# Altium integrated library AMP CHAMP Miniature Ribbon 050 Series II.IntLib: 164 symbols (part 1 of 4)
Pins are listed as number, name and electrical type; pins without a type are passive.

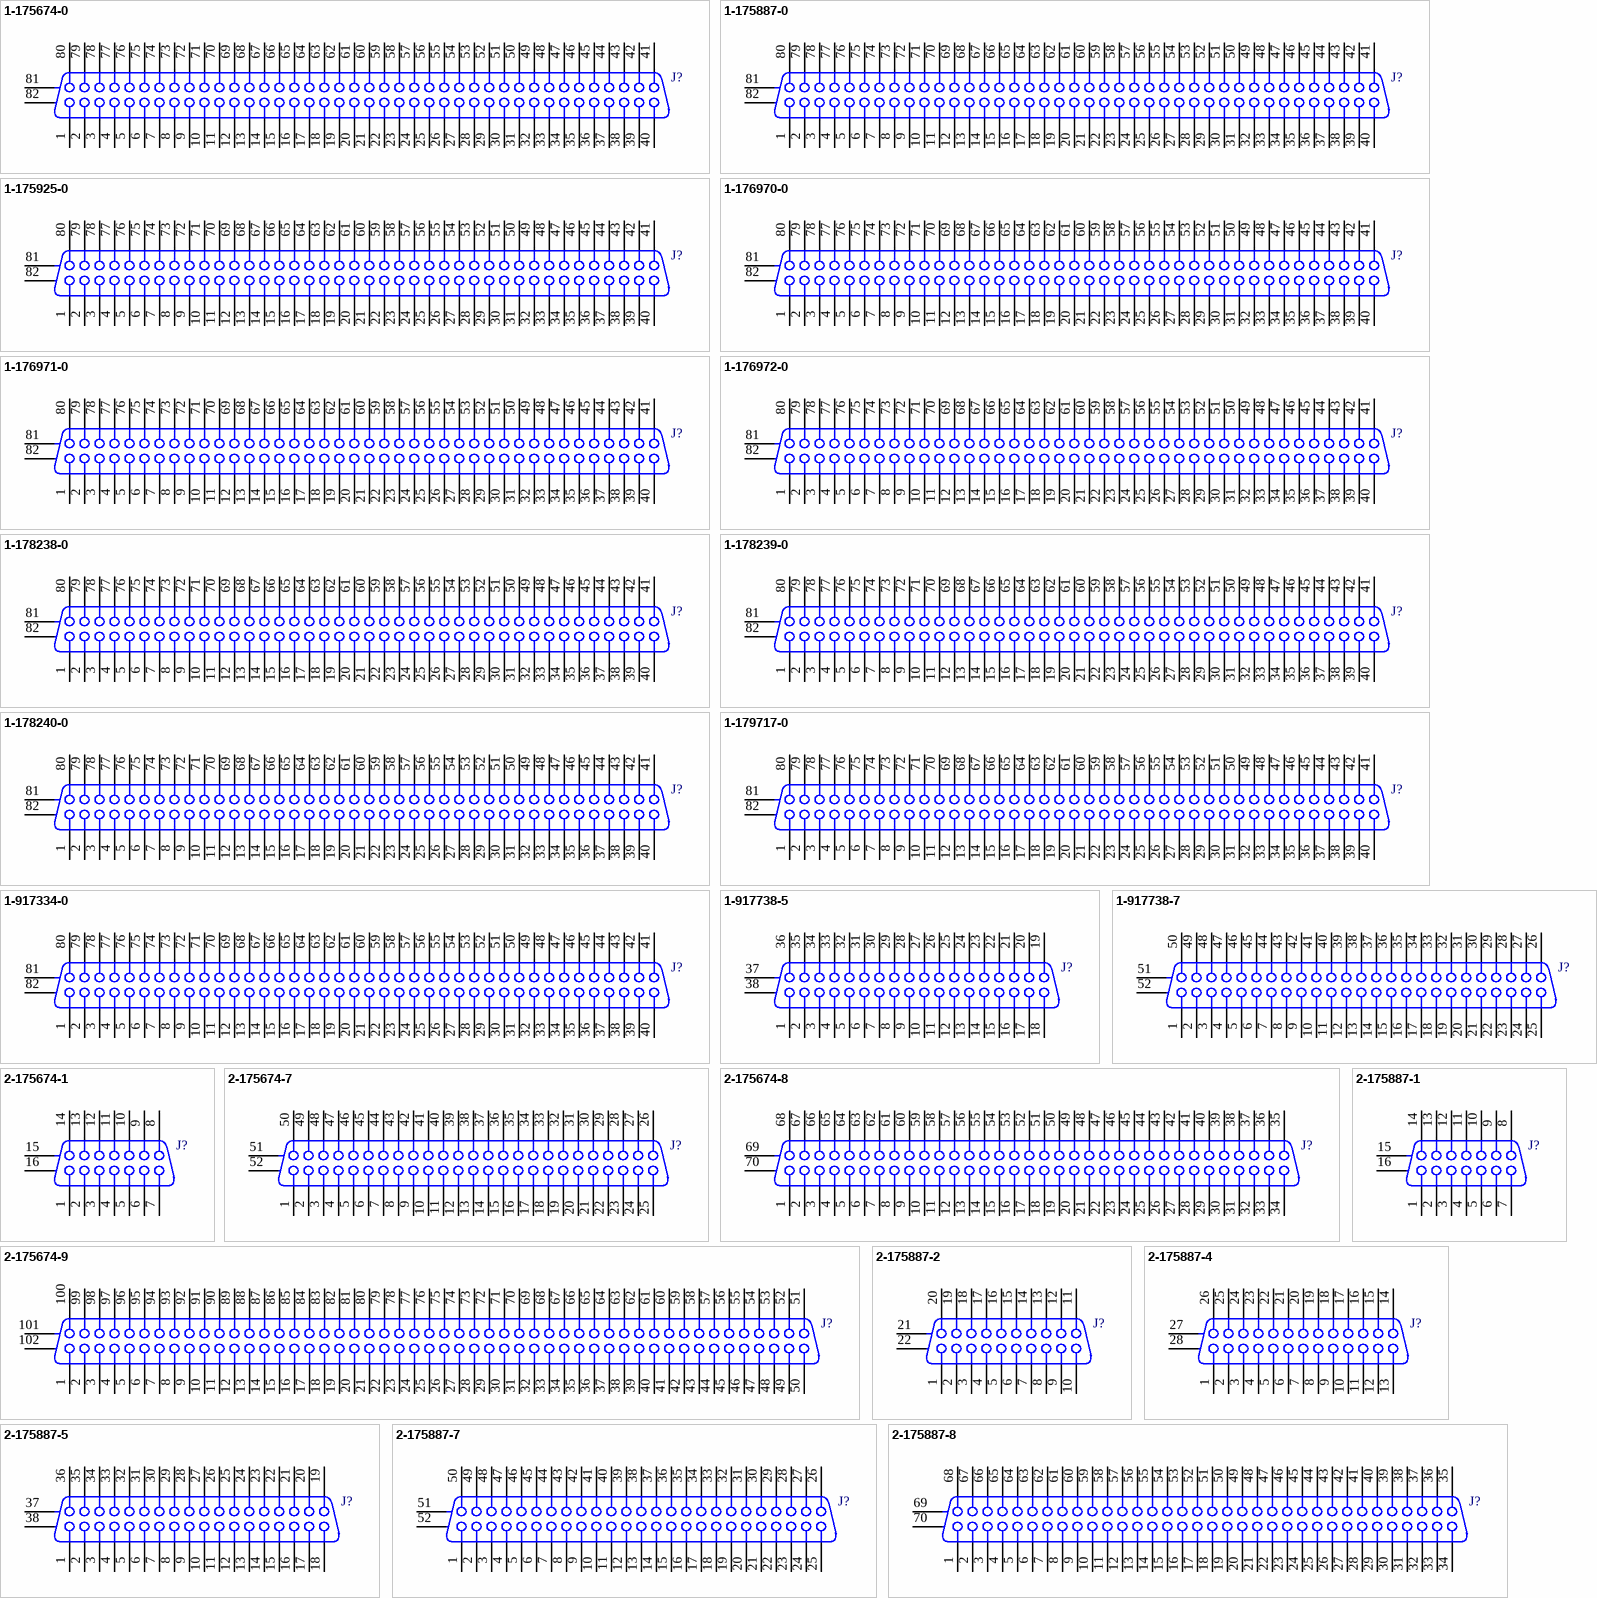
[diagram p0: symbols 1-175674-0 to 2-175887-8]

## 1-175674-0
designator J?
Receptacle Header Assemby (3.9mm) without Retention Leg CHAMP .050 Series II; ContactMaterial: Phosphor Bronze; ContactPlating: Gold (12); Positions: 80; PCB_Layout: Complies with manufacturer's recommendation.; DrillSize: Corresponds to nominal value.; ComponentAvailability: Obsolete; Published: 15-Jun-2001; LatestRevisionDate: 29-May-2009; LatestRevisionNote: Component Body Added.; DatasheetVersion: 30-Nov-1999; PackageVersion: 30-Nov-1999; PackageReference: 1-175674-0; Publisher: Altium Limited; Orientation: Right Angle; HousingMaterial: Thermoplastic Polyester, UL 94V-0; ComponentLink1Description: Manufacturer Link; ComponentLink1URL: http://www.tycoelectronics.com/
footprint 1-175674-0 (Connector; CHAMP Miniature Ribbon 050 Series II; 80 Position; Right Angle)
signal-integrity model CHAMP
pins: 1, 2, 3, 4, 5, 6, 7, 8, 9, 10, 11, 12, 13, 14, 15, 16, 17, 18, 19, 20, 21, 22, 23, 24, 25, 26, 27, 28, 29, 30, 31, 32, 33, 34, 35, 36, 37, 38, 39, 40, 41, 42, 43, 44, 45, 46, 47, 48, 49, 50, 51, 52, 53, 54, 55, 56, 57, 58, 59, 60, 61, 62, 63, 64, 65, 66, 67, 68, 69, 70, 71, 72, 73, 74, 75, 76, 77, 78, 79, 80, 81 MH1, 82 MH2

## 1-175887-0
designator J?
Receptacle Header Assemby, Vertical CHAMP .050 Series II Std-Type (M2.6); ContactMaterial: Phosphor Bronze; ContactPlating: Gold (12); Positions: 80; PCB_Layout: Complies with manufacturer's recommendation.; DrillSize: Corresponds to nominal value.; ComponentAvailability: Obsolete; Published: 15-Jun-2001; LatestRevisionDate: 29-May-2009; LatestRevisionNote: Component Body Added.; DatasheetVersion: 26-Jan-1996; PackageVersion: 26-Jan-1996; PackageReference: 1-175887-0; Publisher: Altium Limited; Orientation: Vertical; HousingMaterial: Thermoplastic, Zinc Die Cast; ComponentLink1Description: Manufacturer Link; ComponentLink1URL: http://www.tycoelectronics.com/; ComponentLink2Description: Packaging Specification; ComponentLink2URL: http://ecommas.tycoelectronics.com/commerce/DocumentDelivery/DDEController?Action=ecatdrawselcritrslt&Part=1-175887-0; ComponentLink3Description: Iges Model; ComponentLink3URL: http://catalog.tycoelectronics.com/TE/docs/cadgeo/1/26/34621.tar.gz
footprint 1-175887-0 (Connector; CHAMP Miniature Ribbon 050 Series II; 80 Position; Vertical)
signal-integrity model CHAMP
pins: 1, 2, 3, 4, 5, 6, 7, 8, 9, 10, 11, 12, 13, 14, 15, 16, 17, 18, 19, 20, 21, 22, 23, 24, 25, 26, 27, 28, 29, 30, 31, 32, 33, 34, 35, 36, 37, 38, 39, 40, 41, 42, 43, 44, 45, 46, 47, 48, 49, 50, 51, 52, 53, 54, 55, 56, 57, 58, 59, 60, 61, 62, 63, 64, 65, 66, 67, 68, 69, 70, 71, 72, 73, 74, 75, 76, 77, 78, 79, 80, 81 MH1, 82 MH2

## 1-175925-0
designator J?
Receptacle Header Assemby, Vertical CHAMP .050 Series II; ContactMaterial: Phosphor Bronze; ContactPlating: Gold (12); Positions: 80; PCB_Layout: Complies with manufacturer's recommendation.; DrillSize: Corresponds to nominal value.; ComponentAvailability: Obsolete; Published: 15-Jun-2001; LatestRevisionDate: 29-May-2009; LatestRevisionNote: Component Body Added.; DatasheetVersion: 20-Dec-1990; PackageVersion: 20-Dec-1990; PackageReference: 1-175925-0; Publisher: Altium Limited; Orientation: Vertical; HousingMaterial: Thermoplastic Polyester, UL 94V-0; ComponentLink1Description: Manufacturer Link; ComponentLink1URL: http://www.tycoelectronics.com/
footprint 1-175925-0 (Connector; CHAMP Miniature Ribbon 050 Series II; 80 Position; Vertical)
signal-integrity model CHAMP
pins: 1, 2, 3, 4, 5, 6, 7, 8, 9, 10, 11, 12, 13, 14, 15, 16, 17, 18, 19, 20, 21, 22, 23, 24, 25, 26, 27, 28, 29, 30, 31, 32, 33, 34, 35, 36, 37, 38, 39, 40, 41, 42, 43, 44, 45, 46, 47, 48, 49, 50, 51, 52, 53, 54, 55, 56, 57, 58, 59, 60, 61, 62, 63, 64, 65, 66, 67, 68, 69, 70, 71, 72, 73, 74, 75, 76, 77, 78, 79, 80, 81 MH1, 82 MH2

## 1-176970-0
designator J?
Receptacle Header Assemby (3.1mm) CHAMP .050 Series II Std-Type; ContactMaterial: Copper Alloy; ContactPlating: Gold (12); Positions: 80; PCB_Layout: Complies with manufacturer's recommendation.; DrillSize: Corresponds to nominal value.; ComponentAvailability: Obsolete; Published: 15-Jun-2001; LatestRevisionDate: 29-May-2009; LatestRevisionNote: Component Body Added.; DatasheetVersion: 20-Sep-1994; PackageVersion: 20-Sep-1994; PackageReference: 1-176970-0; Publisher: Altium Limited; Orientation: Right Angle; HousingMaterial: Zinc Die Cast, UL 94V-0; ComponentLink1Description: Manufacturer Link; ComponentLink1URL: http://www.tycoelectronics.com/
footprint 1-176970-0 (Connector; CHAMP Miniature Ribbon 050 Series II; 80 Position; Right Angle)
signal-integrity model CHAMP
pins: 1, 2, 3, 4, 5, 6, 7, 8, 9, 10, 11, 12, 13, 14, 15, 16, 17, 18, 19, 20, 21, 22, 23, 24, 25, 26, 27, 28, 29, 30, 31, 32, 33, 34, 35, 36, 37, 38, 39, 40, 41, 42, 43, 44, 45, 46, 47, 48, 49, 50, 51, 52, 53, 54, 55, 56, 57, 58, 59, 60, 61, 62, 63, 64, 65, 66, 67, 68, 69, 70, 71, 72, 73, 74, 75, 76, 77, 78, 79, 80, 81 MH1, 82 MH2

## 1-176971-0
designator J?
Receptacle Header Assemby (3.9mm) CHAMP .050 Series II Std-Type; ContactMaterial: Copper Alloy; ContactPlating: Gold (12); Positions: 80; PCB_Layout: Complies with manufacturer's recommendation.; DrillSize: Corresponds to nominal value.; ComponentAvailability: Obsolete; Published: 15-Jun-2001; LatestRevisionDate: 29-May-2009; LatestRevisionNote: Component Body Added.; DatasheetVersion: 21-Sep-1994; PackageVersion: 21-Sep-1994; PackageReference: 1-176971-0; Publisher: Altium Limited; Orientation: Right Angle; HousingMaterial: Zinc Die Cast, UL 94V-0; ComponentLink1Description: Manufacturer Link; ComponentLink1URL: http://www.tycoelectronics.com/
footprint 1-176971-0 (Connector; CHAMP Miniature Ribbon 050 Series II; 80 Position; Right Angle)
signal-integrity model CHAMP
pins: 1, 2, 3, 4, 5, 6, 7, 8, 9, 10, 11, 12, 13, 14, 15, 16, 17, 18, 19, 20, 21, 22, 23, 24, 25, 26, 27, 28, 29, 30, 31, 32, 33, 34, 35, 36, 37, 38, 39, 40, 41, 42, 43, 44, 45, 46, 47, 48, 49, 50, 51, 52, 53, 54, 55, 56, 57, 58, 59, 60, 61, 62, 63, 64, 65, 66, 67, 68, 69, 70, 71, 72, 73, 74, 75, 76, 77, 78, 79, 80, 81 MH1, 82 MH2

## 1-176972-0
designator J?
Receptacle Header Assemby (2.2mm) CHAMP .050 Series II Std-Type; ContactMaterial: Copper Alloy; ContactPlating: Gold (12); Positions: 80; PCB_Layout: Complies with manufacturer's recommendation.; DrillSize: Corresponds to nominal value.; ComponentAvailability: Obsolete; Published: 15-Jun-2001; LatestRevisionDate: 29-May-2009; LatestRevisionNote: Component Body Added.; DatasheetVersion: 24-Sep-1994; PackageVersion: 24-Sep-1994; PackageReference: 1-176972-0; Publisher: Altium Limited; Orientation: Right Angle; HousingMaterial: Zinc Die Cast, UL 94V-0; ComponentLink1Description: Manufacturer Link; ComponentLink1URL: http://www.tycoelectronics.com/
footprint 1-176972-0 (Connector; CHAMP Miniature Ribbon 050 Series II; 80 Position; Right Angle)
signal-integrity model CHAMP
pins: 1, 2, 3, 4, 5, 6, 7, 8, 9, 10, 11, 12, 13, 14, 15, 16, 17, 18, 19, 20, 21, 22, 23, 24, 25, 26, 27, 28, 29, 30, 31, 32, 33, 34, 35, 36, 37, 38, 39, 40, 41, 42, 43, 44, 45, 46, 47, 48, 49, 50, 51, 52, 53, 54, 55, 56, 57, 58, 59, 60, 61, 62, 63, 64, 65, 66, 67, 68, 69, 70, 71, 72, 73, 74, 75, 76, 77, 78, 79, 80, 81 MH1, 82 MH2

## 1-178238-0
designator J?
Receptacle Header Assemby (3.1mm) Retention Leg CHAMP .050 Series II Std-Type; ContactMaterial: Copper Alloy; ContactPlating: Gold (12); Positions: 80; PCB_Layout: Complies with manufacturer's recommendation.; DrillSize: Corresponds to nominal value.; ComponentAvailability: Obsolete; Published: 15-Jun-2001; LatestRevisionDate: 29-May-2009; LatestRevisionNote: Component Body Added.; DatasheetVersion: Jun-1995; PackageVersion: Jun-1995; PackageReference: 1-178238-0; Publisher: Altium Limited; Orientation: Right Angle; HousingMaterial: Zinc Die Cast, UL 94V-0; ComponentLink1Description: Manufacturer Link; ComponentLink1URL: http://www.tycoelectronics.com/; ComponentLink2Description: Packaging Specification; ComponentLink2URL: http://ecommas.tycoelectronics.com/commerce/DocumentDelivery/DDEController?Action=showdoc&DocId=Customer+Drawing%7F178238%7FC%7Fpdf%7FEnglish%7FENG_CD_178238_C.pdf
footprint 1-178238-0 (Connector; CHAMP Miniature Ribbon 050 Series II; 80 Position; Right Angle)
signal-integrity model CHAMP
pins: 1, 2, 3, 4, 5, 6, 7, 8, 9, 10, 11, 12, 13, 14, 15, 16, 17, 18, 19, 20, 21, 22, 23, 24, 25, 26, 27, 28, 29, 30, 31, 32, 33, 34, 35, 36, 37, 38, 39, 40, 41, 42, 43, 44, 45, 46, 47, 48, 49, 50, 51, 52, 53, 54, 55, 56, 57, 58, 59, 60, 61, 62, 63, 64, 65, 66, 67, 68, 69, 70, 71, 72, 73, 74, 75, 76, 77, 78, 79, 80, 81 MH1, 82 MH2

## 1-178239-0
designator J?
Receptacle Header Assemby (3.9mm) Retention Leg CHAMP .050 Series II Std-Type; ContactMaterial: Copper Alloy; ContactPlating: Gold (12); Positions: 80; PCB_Layout: Complies with manufacturer's recommendation.; DrillSize: Corresponds to nominal value.; Published: 15-Jun-2001; LatestRevisionDate: 29-May-2009; LatestRevisionNote: Component Body Added.; DatasheetVersion: Jun-1995; PackageVersion: Jun-1995; PackageReference: 1-178239-0; Publisher: Altium Limited; Orientation: Right Angle; HousingMaterial: Zinc Die Cast, UL 94V-0; ComponentLink1Description: Manufacturer Link; ComponentLink1URL: http://www.tycoelectronics.com/; ComponentLink2Description: Packaging Specification; ComponentLink2URL: http://ecommas.tycoelectronics.com/commerce/DocumentDelivery/DDEController?Action=showdoc&DocId=Customer+Drawing%7F178239%7FB%7Fpdf%7FEnglish%7FENG_CD_178239_B.pdf
footprint 1-178239-0 (Connector; CHAMP Miniature Ribbon 050 Series II; 80 Position; Right Angle)
signal-integrity model CHAMP
pins: 1, 2, 3, 4, 5, 6, 7, 8, 9, 10, 11, 12, 13, 14, 15, 16, 17, 18, 19, 20, 21, 22, 23, 24, 25, 26, 27, 28, 29, 30, 31, 32, 33, 34, 35, 36, 37, 38, 39, 40, 41, 42, 43, 44, 45, 46, 47, 48, 49, 50, 51, 52, 53, 54, 55, 56, 57, 58, 59, 60, 61, 62, 63, 64, 65, 66, 67, 68, 69, 70, 71, 72, 73, 74, 75, 76, 77, 78, 79, 80, 81 MH1, 82 MH2

## 1-178240-0
designator J?
Receptacle Header Assemby (2.2mm) Retention Leg CHAMP .050 Series II Std-Type; ContactMaterial: Copper Alloy; ContactPlating: Gold (12); Positions: 80; PCB_Layout: Complies with manufacturer's recommendation.; DrillSize: Corresponds to nominal value.; ComponentAvailability: Obsolete; Published: 15-Jun-2001; LatestRevisionDate: 29-May-2009; LatestRevisionNote: Component Body Added.; DatasheetVersion: Jun-1995; PackageVersion: Jun-1995; PackageReference: 1-178240-0; Publisher: Altium Limited; Orientation: Right Angle; HousingMaterial: Zinc Die Cast, UL 94V-0; ComponentLink1Description: Manufacturer Link; ComponentLink1URL: http://www.tycoelectronics.com/; ComponentLink2Description: Packaging Specification; ComponentLink2URL: http://ecommas.tycoelectronics.com/commerce/DocumentDelivery/DDEController?Action=showdoc&DocId=Customer+Drawing%7F178240%7FD%7Fpdf%7FEnglish%7FENG_CD_178240_D.pdf
footprint 1-178240-0 (Connector; CHAMP Miniature Ribbon 050 Series II; 80 Position; Right Angle)
signal-integrity model CHAMP
pins: 1, 2, 3, 4, 5, 6, 7, 8, 9, 10, 11, 12, 13, 14, 15, 16, 17, 18, 19, 20, 21, 22, 23, 24, 25, 26, 27, 28, 29, 30, 31, 32, 33, 34, 35, 36, 37, 38, 39, 40, 41, 42, 43, 44, 45, 46, 47, 48, 49, 50, 51, 52, 53, 54, 55, 56, 57, 58, 59, 60, 61, 62, 63, 64, 65, 66, 67, 68, 69, 70, 71, 72, 73, 74, 75, 76, 77, 78, 79, 80, 81 MH1, 82 MH2

## 1-179717-0
designator J?
Receptacle Header Assemby, Retention Leg CHAMP .050 Series II Std-Type; ContactMaterial: Copper Alloy; ContactPlating: Gold (12); Positions: 80; PCB_Layout: Complies with manufacturer's recommendation.; DrillSize: Corresponds to nominal value.; Published: 15-Jun-2001; LatestRevisionDate: 29-May-2009; LatestRevisionNote: Component Body Added.; DatasheetVersion: 19-Feb-1996; PackageVersion: 19-Feb-1996; PackageReference: 1-179717-0; Publisher: Altium Limited; Orientation: Right Angle; HousingMaterial: Thermoplastic; ComponentLink1Description: Manufacturer Link; ComponentLink1URL: http://www.tycoelectronics.com/; ComponentLink2Description: Packaging Specification; ComponentLink2URL: http://ecommas.tycoelectronics.com/commerce/DocumentDelivery/DDEController?Action=showdoc&DocId=Customer+Drawing%7F179717%7FE%7Fpdf%7FJapanese%7FJPN_CD_179717_E.pdf
footprint 1-179717-0 (Connector; CHAMP Miniature Ribbon 050 Series II; 80 Position; Right Angle)
signal-integrity model CHAMP
pins: 1, 2, 3, 4, 5, 6, 7, 8, 9, 10, 11, 12, 13, 14, 15, 16, 17, 18, 19, 20, 21, 22, 23, 24, 25, 26, 27, 28, 29, 30, 31, 32, 33, 34, 35, 36, 37, 38, 39, 40, 41, 42, 43, 44, 45, 46, 47, 48, 49, 50, 51, 52, 53, 54, 55, 56, 57, 58, 59, 60, 61, 62, 63, 64, 65, 66, 67, 68, 69, 70, 71, 72, 73, 74, 75, 76, 77, 78, 79, 80, 81 MH1, 82 MH2

## 1-917334-0
designator J?
Receptacle Header Assemby, Vertical, Retention Leg CHAMP .050 Series II Std-Type (M2.6); ContactMaterial: Phosphor Bronze; ContactPlating: Gold (12); Positions: 80; PCB_Layout: Complies with manufacturer's recommendation.; DrillSize: Corresponds to nominal value.; Published: 15-Jun-2001; LatestRevisionDate: 29-May-2009; LatestRevisionNote: Component Body Added.; DatasheetVersion: 25-Jan-1996; PackageVersion: 25-Jan-1996; PackageReference: 1-917334-0; Publisher: Altium Limited; Orientation: Vertical; HousingMaterial: Thermoplastic, Zinc Die Cast, UL 94V-0; ComponentLink1Description: Manufacturer Link; ComponentLink1URL: http://www.tycoelectronics.com/; ComponentLink2Description: Packaging Specification; ComponentLink2URL: http://ecommas.tycoelectronics.com/commerce/DocumentDelivery/DDEController?Action=showdoc&DocId=Customer+Drawing%7F917334%7FC%7Fpdf%7FEnglish%7FENG_CD_917334_C.pdf
footprint 1-917334-0 (Connector; CHAMP Miniature Ribbon 050 Series II; 80 Position; Vertical)
signal-integrity model CHAMP
pins: 1, 2, 3, 4, 5, 6, 7, 8, 9, 10, 11, 12, 13, 14, 15, 16, 17, 18, 19, 20, 21, 22, 23, 24, 25, 26, 27, 28, 29, 30, 31, 32, 33, 34, 35, 36, 37, 38, 39, 40, 41, 42, 43, 44, 45, 46, 47, 48, 49, 50, 51, 52, 53, 54, 55, 56, 57, 58, 59, 60, 61, 62, 63, 64, 65, 66, 67, 68, 69, 70, 71, 72, 73, 74, 75, 76, 77, 78, 79, 80, 81 MH1, 82 MH2

## 1-917738-5
designator J?
Receptacle Header Assemby ( 3.1mm ) CHAMP .050 Series II Fms-Type; ContactMaterial: Copper Alloy; ContactPlating: Select Gold; Positions: 36; PCB_Layout: Complies with manufacturer's recommendation.; DrillSize: Corresponds to nominal value.; ComponentAvailability: Obsolete; Published: 15-Jun-2001; LatestRevisionDate: 29-May-2009; LatestRevisionNote: Component Body Added.; DatasheetVersion: 1997; PackageVersion: 1997; PackageReference: 1-917738-5; Publisher: Altium Limited; Orientation: Right Angle; HousingMaterial: PA6T; ComponentLink1Description: Manufacturer Link; ComponentLink1URL: http://www.tycoelectronics.com/; ComponentLink2Description: Packaging Specification; ComponentLink2URL: http://ecommas.tycoelectronics.com/commerce/DocumentDelivery/DDEController?Action=showdoc&DocId=Customer+Drawing%7F917738%7FC%7Fpdf%7FEnglish%7FENG_CD_917738_C.pdf
footprint 1-917738-5 (Connector; CHAMP Miniature Ribbon 050 Series II; 36 Position; Right Angle)
signal-integrity model CHAMP
pins: 1, 2, 3, 4, 5, 6, 7, 8, 9, 10, 11, 12, 13, 14, 15, 16, 17, 18, 19, 20, 21, 22, 23, 24, 25, 26, 27, 28, 29, 30, 31, 32, 33, 34, 35, 36, 37 MH1, 38 MH2

## 1-917738-7
designator J?
Receptacle Header Assemby ( 3.1mm ) CHAMP .050 Series II Fms-Type; ContactMaterial: Copper Alloy; ContactPlating: Select Gold; Positions: 50; PCB_Layout: Complies with manufacturer's recommendation.; DrillSize: Corresponds to nominal value.; ComponentAvailability: Obsolete; Published: 15-Jun-2001; LatestRevisionDate: 29-May-2009; LatestRevisionNote: Component Body Added.; DatasheetVersion: 1997; PackageVersion: 1997; PackageReference: 1-917738-7; Publisher: Altium Limited; Orientation: Right Angle; HousingMaterial: PA6T; ComponentLink1Description: Manufacturer Link; ComponentLink1URL: http://www.tycoelectronics.com/; ComponentLink2Description: Packaging Specification; ComponentLink2URL: http://ecommas.tycoelectronics.com/commerce/DocumentDelivery/DDEController?Action=showdoc&DocId=Customer+Drawing%7F917738%7FC%7Fpdf%7FEnglish%7FENG_CD_917738_C.pdf
footprint 1-917738-7 (Connector; CHAMP Miniature Ribbon 050 Series II; 50 Position; Right Angle)
signal-integrity model CHAMP
pins: 1, 2, 3, 4, 5, 6, 7, 8, 9, 10, 11, 12, 13, 14, 15, 16, 17, 18, 19, 20, 21, 22, 23, 24, 25, 26, 27, 28, 29, 30, 31, 32, 33, 34, 35, 36, 37, 38, 39, 40, 41, 42, 43, 44, 45, 46, 47, 48, 49, 50, 51 MH1, 52 MH2

## 2-175674-1
designator J?
Receptacle Header Assemby (3.9mm) without Retention Leg CHAMP .050 Series II; ContactMaterial: Phosphor Bronze; ContactPlating: Gold (30); Positions: 14; PCB_Layout: Complies with manufacturer's recommendation.; DrillSize: Corresponds to nominal value.; ComponentAvailability: Obsolete; Published: 15-Jun-2001; LatestRevisionDate: 29-May-2009; LatestRevisionNote: Component Body Added.; DatasheetVersion: 30-Nov-1999; PackageVersion: 30-Nov-1999; PackageReference: 2-175674-1; Publisher: Altium Limited; Orientation: Right Angle; HousingMaterial: Thermoplastic Polyester, UL 94V-0; ComponentLink1Description: Manufacturer Link; ComponentLink1URL: http://www.tycoelectronics.com/
footprint 2-175674-1 (Connector; CHAMP Miniature Ribbon 050 Series II; 14 Position; Right Angle)
signal-integrity model CHAMP
pins: 1, 2, 3, 4, 5, 6, 7, 8, 9, 10, 11, 12, 13, 14, 15 MH1, 16 MH2

## 2-175674-7
designator J?
Receptacle Header Assemby (3.9mm) without Retention Leg CHAMP .050 Series II; ContactMaterial: Phosphor Bronze; ContactPlating: Gold (30); Positions: 50; PCB_Layout: Complies with manufacturer's recommendation.; DrillSize: Corresponds to nominal value.; ComponentAvailability: Obsolete; Published: 15-Jun-2001; LatestRevisionDate: 29-May-2009; LatestRevisionNote: Component Body Added.; DatasheetVersion: 30-Nov-1999; PackageVersion: 30-Nov-1999; PackageReference: 2-175674-7; Publisher: Altium Limited; Orientation: Right Angle; HousingMaterial: Thermoplastic Polyester, UL 94V-0; ComponentLink1Description: Manufacturer Link; ComponentLink1URL: http://www.tycoelectronics.com/
footprint 2-175674-7 (Connector; CHAMP Miniature Ribbon 050 Series II; 50 Position; Right Angle)
signal-integrity model CHAMP
pins: 1, 2, 3, 4, 5, 6, 7, 8, 9, 10, 11, 12, 13, 14, 15, 16, 17, 18, 19, 20, 21, 22, 23, 24, 25, 26, 27, 28, 29, 30, 31, 32, 33, 34, 35, 36, 37, 38, 39, 40, 41, 42, 43, 44, 45, 46, 47, 48, 49, 50, 51 MH1, 52 MH2

## 2-175674-8
designator J?
Receptacle Header Assemby (3.9mm) without Retention Leg CHAMP .050 Series II; ContactMaterial: Phosphor Bronze; ContactPlating: Gold (12); Positions: 68; PCB_Layout: Complies with manufacturer's recommendation.; DrillSize: Corresponds to nominal value.; ComponentAvailability: Obsolete; Published: 15-Jun-2001; LatestRevisionDate: 29-May-2009; LatestRevisionNote: Component Body Added.; DatasheetVersion: 30-Nov-1999; PackageVersion: 30-Nov-1999; PackageReference: 2-175674-8; Publisher: Altium Limited; Orientation: Right Angle; HousingMaterial: Thermoplastic Polyester, UL 94V-0; ComponentLink1Description: Manufacturer Link; ComponentLink1URL: http://www.tycoelectronics.com/
footprint 2-175674-8 (Connector; CHAMP Miniature Ribbon 050 Series II; 68 Position; Right Angle)
signal-integrity model CHAMP
pins: 1, 2, 3, 4, 5, 6, 7, 8, 9, 10, 11, 12, 13, 14, 15, 16, 17, 18, 19, 20, 21, 22, 23, 24, 25, 26, 27, 28, 29, 30, 31, 32, 33, 34, 35, 36, 37, 38, 39, 40, 41, 42, 43, 44, 45, 46, 47, 48, 49, 50, 51, 52, 53, 54, 55, 56, 57, 58, 59, 60, 61, 62, 63, 64, 65, 66, 67, 68, 69 MH1, 70 MH2

## 2-175674-9
designator J?
Receptacle Header Assemby (3.9mm) without Retention Leg CHAMP .050 Series II; ContactMaterial: Phosphor Bronze; ContactPlating: Gold (30); Positions: 100; PCB_Layout: Complies with manufacturer's recommendation.; DrillSize: Corresponds to nominal value.; ComponentAvailability: Obsolete; Published: 15-Jun-2001; LatestRevisionDate: 29-May-2009; LatestRevisionNote: Component Body Added.; DatasheetVersion: 30-Nov-1999; PackageVersion: 30-Nov-1999; PackageReference: 2-175674-9; Publisher: Altium Limited; Orientation: Right Angle; HousingMaterial: Thermoplastic Polyester, UL 94V-0; ComponentLink1Description: Manufacturer Link; ComponentLink1URL: http://www.tycoelectronics.com/
footprint 2-175674-9 (Connector; CHAMP Miniature Ribbon 050 Series II; 100 Position; Right Angle)
signal-integrity model CHAMP
pins: 1, 2, 3, 4, 5, 6, 7, 8, 9, 10, 11, 12, 13, 14, 15, 16, 17, 18, 19, 20, 21, 22, 23, 24, 25, 26, 27, 28, 29, 30, 31, 32, 33, 34, 35, 36, 37, 38, 39, 40, 41, 42, 43, 44, 45, 46, 47, 48, 49, 50, 51, 52, 53, 54, 55, 56, 57, 58, 59, 60, 61, 62, 63, 64, 65, 66, 67, 68, 69, 70, 71, 72, 73, 74, 75, 76, 77, 78, 79, 80, 81, 82, 83, 84, 85, 86, 87, 88, 89, 90, 91, 92, 93, 94, 95, 96, 97, 98, 99, 100, 101 MH1, 102 MH2

## 2-175887-1
designator J?
Receptacle Header Assemby, Vertical CHAMP .050 Series II Std-Type (M2.6); ContactMaterial: Phosphor Bronze; ContactPlating: Gold (30); Positions: 14; PCB_Layout: Complies with manufacturer's recommendation.; DrillSize: Corresponds to nominal value.; ComponentAvailability: Obsolete; Published: 15-Jun-2001; LatestRevisionDate: 29-May-2009; LatestRevisionNote: Component Body Added.; DatasheetVersion: 26-Jan-1996; PackageVersion: 26-Jan-1996; PackageReference: 2-175887-1; Publisher: Altium Limited; Orientation: Vertical; HousingMaterial: Glass-Filled Nylon; ComponentLink1Description: Manufacturer Link; ComponentLink1URL: http://www.tycoelectronics.com/; ComponentLink2Description: Packaging Specification; ComponentLink2URL: http://ecommas.tycoelectronics.com/commerce/DocumentDelivery/DDEController?Action=showdoc&DocId=Customer+Drawing%7F175887%7FE%7Fpdf%7FEnglish%7FENG_CD_175887_E.pdf; ComponentLink3Description: Iges Model; ComponentLink3URL: http://catalog.tycoelectronics.com/TE/docs/cadgeo/3/92/2293.tar.gz
footprint 2-175887-1 (Connector; CHAMP Miniature Ribbon 050 Series II; 14 Position; Vertical)
signal-integrity model CHAMP
pins: 1, 2, 3, 4, 5, 6, 7, 8, 9, 10, 11, 12, 13, 14, 15 MH1, 16 MH2

## 2-175887-2
designator J?
Receptacle Header Assemby, Vertical CHAMP .050 Series II Std-Type (M2.6); ContactMaterial: Phosphor Bronze; ContactPlating: Gold (30); Positions: 20; PCB_Layout: Complies with manufacturer's recommendation.; DrillSize: Corresponds to nominal value.; ComponentAvailability: Obsolete; Published: 15-Jun-2001; LatestRevisionDate: 29-May-2009; LatestRevisionNote: Component Body Added.; DatasheetVersion: 26-Jan-1996; PackageVersion: 26-Jan-1996; PackageReference: 2-175887-2; Publisher: Altium Limited; Orientation: Vertical; HousingMaterial: Glass-Filled Nylon; ComponentLink1Description: Manufacturer Link; ComponentLink1URL: http://www.tycoelectronics.com/; ComponentLink2Description: Packaging Specification; ComponentLink2URL: http://ecommas.tycoelectronics.com/commerce/DocumentDelivery/DDEController?Action=showdoc&DocId=Customer+Drawing%7F175887%7FE%7Fpdf%7FEnglish%7FENG_CD_175887_E.pdf; ComponentLink3Description: Iges Model; ComponentLink3URL: http://catalog.tycoelectronics.com/TE/docs/cadgeo/3/92/2293.tar.gz
footprint 2-175887-2 (Connector; CHAMP Miniature Ribbon 050 Series II; 20 Position; Vertical)
signal-integrity model CHAMP
pins: 1, 2, 3, 4, 5, 6, 7, 8, 9, 10, 11, 12, 13, 14, 15, 16, 17, 18, 19, 20, 21 MH1, 22 MH2

## 2-175887-4
designator J?
Receptacle Header Assemby, Vertical CHAMP .050 Series II Std-Type (M2.6); ContactMaterial: Phosphor Bronze; ContactPlating: Gold (30); Positions: 26; PCB_Layout: Complies with manufacturer's recommendation.; DrillSize: Corresponds to nominal value.; ComponentAvailability: Obsolete; Published: 15-Jun-2001; LatestRevisionDate: 29-May-2009; LatestRevisionNote: Component Body Added.; DatasheetVersion: 26-Jan-1996; PackageVersion: 26-Jan-1996; PackageReference: 2-175887-4; Publisher: Altium Limited; Orientation: Vertical; HousingMaterial: Glass-Filled Nylon; ComponentLink1Description: Manufacturer Link; ComponentLink1URL: http://www.tycoelectronics.com/; ComponentLink2Description: Packaging Specification; ComponentLink2URL: http://ecommas.tycoelectronics.com/commerce/DocumentDelivery/DDEController?Action=showdoc&DocId=Customer+Drawing%7F175887%7FE%7Fpdf%7FEnglish%7FENG_CD_175887_E.pdf; ComponentLink3Description: Iges Model; ComponentLink3URL: http://catalog.tycoelectronics.com/TE/docs/cadgeo/3/92/2293.tar.gz
footprint 2-175887-4 (Connector; CHAMP Miniature Ribbon 050 Series II; 26 Position; Vertical)
signal-integrity model CHAMP
pins: 1, 2, 3, 4, 5, 6, 7, 8, 9, 10, 11, 12, 13, 14, 15, 16, 17, 18, 19, 20, 21, 22, 23, 24, 25, 26, 27 MH1, 28 MH2

## 2-175887-5
designator J?
Receptacle Header Assemby, Vertical CHAMP .050 Series II Std-Type (M2.6); ContactMaterial: Phosphor Bronze; ContactPlating: Gold (30); Positions: 36; PCB_Layout: Complies with manufacturer's recommendation.; DrillSize: Corresponds to nominal value.; ComponentAvailability: Obsolete; Published: 15-Jun-2001; LatestRevisionDate: 29-May-2009; LatestRevisionNote: Component Body Added.; DatasheetVersion: 26-Jan-1996; PackageVersion: 26-Jan-1996; PackageReference: 2-175887-5; Publisher: Altium Limited; Orientation: Vertical; HousingMaterial: Glass-Filled Nylon; ComponentLink1Description: Manufacturer Link; ComponentLink1URL: http://www.tycoelectronics.com/; ComponentLink2Description: Packaging Specification; ComponentLink2URL: http://ecommas.tycoelectronics.com/commerce/DocumentDelivery/DDEController?Action=showdoc&DocId=Customer+Drawing%7F175887%7FE%7Fpdf%7FEnglish%7FENG_CD_175887_E.pdf; ComponentLink3Description: Iges Model; ComponentLink3URL: http://catalog.tycoelectronics.com/TE/docs/cadgeo/3/92/2293.tar.gz
footprint 2-175887-5 (Connector; CHAMP Miniature Ribbon 050 Series II; 36 Position; Vertical)
signal-integrity model CHAMP
pins: 1, 2, 3, 4, 5, 6, 7, 8, 9, 10, 11, 12, 13, 14, 15, 16, 17, 18, 19, 20, 21, 22, 23, 24, 25, 26, 27, 28, 29, 30, 31, 32, 33, 34, 35, 36, 37 MH1, 38 MH2

## 2-175887-7
designator J?
Receptacle Header Assemby, Vertical CHAMP .050 Series II Std-Type (M2.6); ContactMaterial: Phosphor Bronze; ContactPlating: Gold (30); Positions: 50; PCB_Layout: Complies with manufacturer's recommendation.; DrillSize: Corresponds to nominal value.; ComponentAvailability: Obsolete; Published: 15-Jun-2001; LatestRevisionDate: 29-May-2009; LatestRevisionNote: Component Body Added.; DatasheetVersion: 26-Jan-1996; PackageVersion: 26-Jan-1996; PackageReference: 2-175887-7; Publisher: Altium Limited; Orientation: Vertical; HousingMaterial: Glass-Filled Nylon; ComponentLink1Description: Manufacturer Link; ComponentLink1URL: http://www.tycoelectronics.com/; ComponentLink2Description: Packaging Specification; ComponentLink2URL: http://ecommas.tycoelectronics.com/commerce/DocumentDelivery/DDEController?Action=showdoc&DocId=Customer+Drawing%7F175887%7FE%7Fpdf%7FEnglish%7FENG_CD_175887_E.pdf; ComponentLink3Description: Iges Model; ComponentLink3URL: http://catalog.tycoelectronics.com/TE/docs/cadgeo/3/92/2293.tar.gz
footprint 2-175887-7 (Connector; CHAMP Miniature Ribbon 050 Series II; 50 Position; Vertical)
signal-integrity model CHAMP
pins: 1, 2, 3, 4, 5, 6, 7, 8, 9, 10, 11, 12, 13, 14, 15, 16, 17, 18, 19, 20, 21, 22, 23, 24, 25, 26, 27, 28, 29, 30, 31, 32, 33, 34, 35, 36, 37, 38, 39, 40, 41, 42, 43, 44, 45, 46, 47, 48, 49, 50, 51 MH1, 52 MH2

## 2-175887-8
designator J?
Receptacle Header Assemby, Vertical CHAMP .050 Series II Std-Type (M2.6); ContactMaterial: Phosphor Bronze; ContactPlating: Gold (30); Positions: 68; PCB_Layout: Complies with manufacturer's recommendation.; DrillSize: Corresponds to nominal value.; ComponentAvailability: Obsolete; Published: 15-Jun-2001; LatestRevisionDate: 29-May-2009; LatestRevisionNote: Component Body Added.; DatasheetVersion: 26-Jan-1996; PackageVersion: 26-Jan-1996; PackageReference: 2-175887-8; Publisher: Altium Limited; Orientation: Vertical; HousingMaterial: Glass-Filled Nylon; ComponentLink1Description: Manufacturer Link; ComponentLink1URL: http://www.tycoelectronics.com/; ComponentLink2Description: Packaging Specification; ComponentLink2URL: http://ecommas.tycoelectronics.com/commerce/DocumentDelivery/DDEController?Action=showdoc&DocId=Customer+Drawing%7F175887%7FE%7Fpdf%7FEnglish%7FENG_CD_175887_E.pdf; ComponentLink3Description: Iges Model; ComponentLink3URL: http://catalog.tycoelectronics.com/TE/docs/cadgeo/3/92/2293.tar.gz
footprint 2-175887-8 (Connector; CHAMP Miniature Ribbon 050 Series II; 68 Position; Vertical)
signal-integrity model CHAMP
pins: 1, 2, 3, 4, 5, 6, 7, 8, 9, 10, 11, 12, 13, 14, 15, 16, 17, 18, 19, 20, 21, 22, 23, 24, 25, 26, 27, 28, 29, 30, 31, 32, 33, 34, 35, 36, 37, 38, 39, 40, 41, 42, 43, 44, 45, 46, 47, 48, 49, 50, 51, 52, 53, 54, 55, 56, 57, 58, 59, 60, 61, 62, 63, 64, 65, 66, 67, 68, 69 MH1, 70 MH2

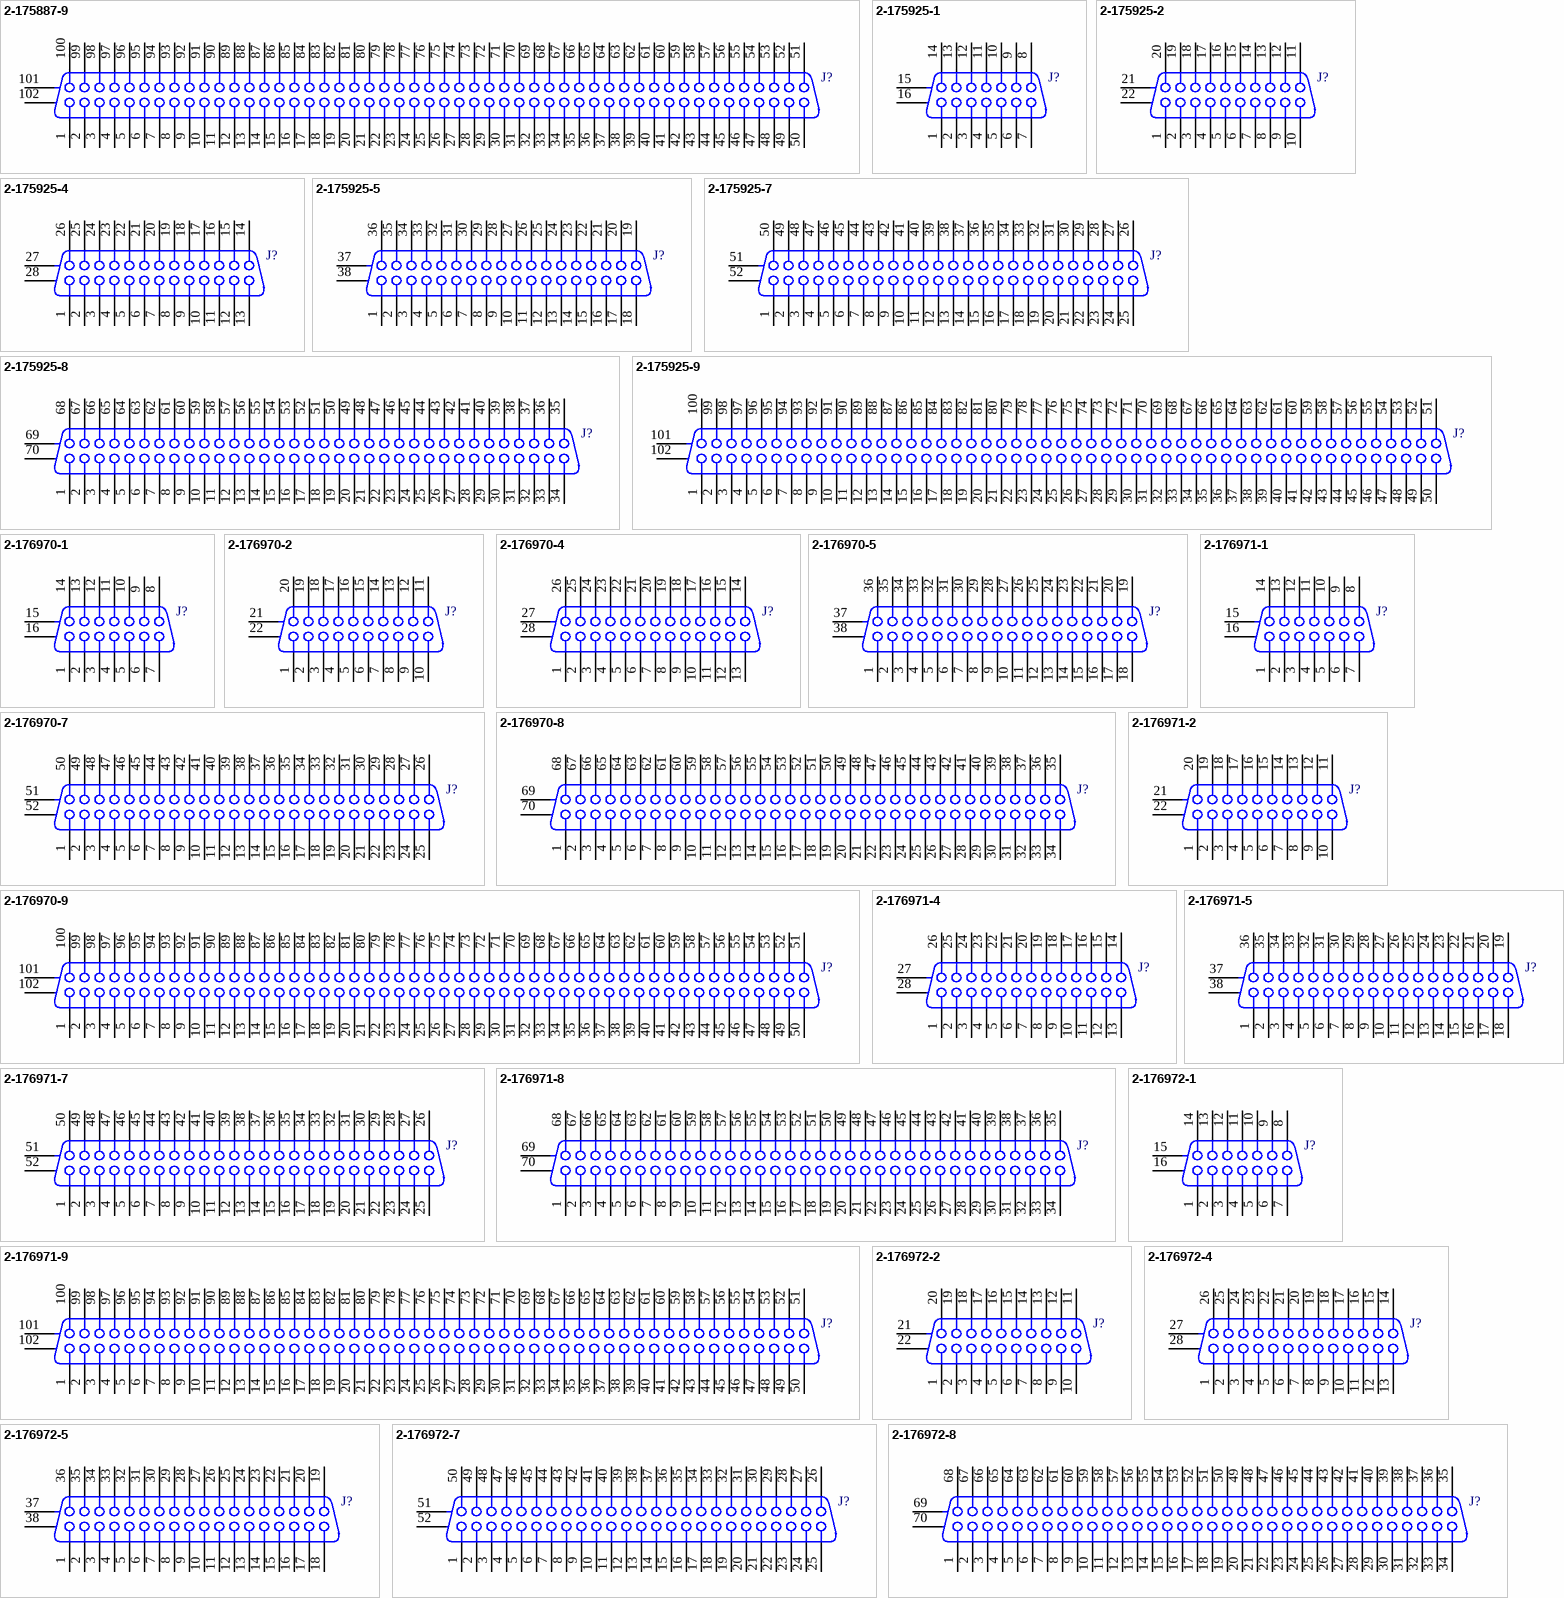
[diagram p1: symbols 2-175887-9 to 2-176972-8]

## 2-175887-9
designator J?
Receptacle Header Assemby, Vertical CHAMP .050 Series II Std-Type (M2.6); ContactMaterial: Phosphor Bronze; ContactPlating: Gold (30); Positions: 100; PCB_Layout: Complies with manufacturer's recommendation.; DrillSize: Corresponds to nominal value.; ComponentAvailability: Obsolete; Published: 15-Jun-2001; LatestRevisionDate: 29-May-2009; LatestRevisionNote: Component Body Added.; DatasheetVersion: 26-Jan-1996; PackageVersion: 26-Jan-1996; PackageReference: 2-175887-9; Publisher: Altium Limited; Orientation: Vertical; HousingMaterial: Glass-Filled Nylon; ComponentLink1Description: Manufacturer Link; ComponentLink1URL: http://www.tycoelectronics.com/; ComponentLink2Description: Packaging Specification; ComponentLink2URL: http://ecommas.tycoelectronics.com/commerce/DocumentDelivery/DDEController?Action=showdoc&DocId=Customer+Drawing%7F175887%7FE%7Fpdf%7FEnglish%7FENG_CD_175887_E.pdf; ComponentLink3Description: Iges Model; ComponentLink3URL: http://catalog.tycoelectronics.com/TE/docs/cadgeo/3/92/2293.tar.gz
footprint 2-175887-9 (Connector; CHAMP Miniature Ribbon 050 Series II; 100 Position; Vertical)
signal-integrity model CHAMP
pins: 1, 2, 3, 4, 5, 6, 7, 8, 9, 10, 11, 12, 13, 14, 15, 16, 17, 18, 19, 20, 21, 22, 23, 24, 25, 26, 27, 28, 29, 30, 31, 32, 33, 34, 35, 36, 37, 38, 39, 40, 41, 42, 43, 44, 45, 46, 47, 48, 49, 50, 51, 52, 53, 54, 55, 56, 57, 58, 59, 60, 61, 62, 63, 64, 65, 66, 67, 68, 69, 70, 71, 72, 73, 74, 75, 76, 77, 78, 79, 80, 81, 82, 83, 84, 85, 86, 87, 88, 89, 90, 91, 92, 93, 94, 95, 96, 97, 98, 99, 100, 101 MH1, 102 MH2

## 2-175925-1
designator J?
Receptacle Header Assemby, Vertical CHAMP .050 Series II; ContactMaterial: Phosphor Bronze; ContactPlating: Gold (30); Positions: 14; PCB_Layout: Complies with manufacturer's recommendation.; DrillSize: Corresponds to nominal value.; ComponentAvailability: Obsolete; Published: 15-Jun-2001; LatestRevisionDate: 29-May-2009; LatestRevisionNote: Component Body Added.; DatasheetVersion: 20-Dec-1990; PackageVersion: 20-Dec-1990; PackageReference: 2-175925-1; Publisher: Altium Limited; Orientation: Vertical; HousingMaterial: Thermoplastic Polyester, UL 94V-0; ComponentLink1Description: Manufacturer Link; ComponentLink1URL: http://www.tycoelectronics.com/
footprint 2-175925-1 (Connector; CHAMP Miniature Ribbon 050 Series II; 14 Position; Vertical)
signal-integrity model CHAMP
pins: 1, 2, 3, 4, 5, 6, 7, 8, 9, 10, 11, 12, 13, 14, 15 MH1, 16 MH2

## 2-175925-2
designator J?
Receptacle Header Assemby, Vertical CHAMP .050 Series II; ContactMaterial: Phosphor Bronze; ContactPlating: Gold (30); Positions: 20; PCB_Layout: Complies with manufacturer's recommendation.; DrillSize: Corresponds to nominal value.; ComponentAvailability: Obsolete; Published: 15-Jun-2001; LatestRevisionDate: 29-May-2009; LatestRevisionNote: Component Body Added.; DatasheetVersion: 20-Dec-1990; PackageVersion: 20-Dec-1990; PackageReference: 2-175925-2; Publisher: Altium Limited; Orientation: Vertical; HousingMaterial: Thermoplastic Polyester, UL 94V-0; ComponentLink1Description: Manufacturer Link; ComponentLink1URL: http://www.tycoelectronics.com/
footprint 2-175925-2 (Connector; CHAMP Miniature Ribbon 050 Series II; 20 Position; Vertical)
signal-integrity model CHAMP
pins: 1, 2, 3, 4, 5, 6, 7, 8, 9, 10, 11, 12, 13, 14, 15, 16, 17, 18, 19, 20, 21 MH1, 22 MH2

## 2-175925-4
designator J?
Receptacle Header Assemby, Vertical CHAMP .050 Series II; ContactMaterial: Phosphor Bronze; ContactPlating: Gold (30); Positions: 26; PCB_Layout: Complies with manufacturer's recommendation.; DrillSize: Corresponds to nominal value.; ComponentAvailability: Obsolete; Published: 15-Jun-2001; LatestRevisionDate: 29-May-2009; LatestRevisionNote: Component Body Added.; DatasheetVersion: 20-Dec-1990; PackageVersion: 20-Dec-1990; PackageReference: 2-175925-4; Publisher: Altium Limited; Orientation: Vertical; HousingMaterial: Thermoplastic Polyester, UL 94V-0; ComponentLink1Description: Manufacturer Link; ComponentLink1URL: http://www.tycoelectronics.com/
footprint 2-175925-4 (Connector; CHAMP Miniature Ribbon 050 Series II; 26 Position; Vertical)
signal-integrity model CHAMP
pins: 1, 2, 3, 4, 5, 6, 7, 8, 9, 10, 11, 12, 13, 14, 15, 16, 17, 18, 19, 20, 21, 22, 23, 24, 25, 26, 27 MH1, 28 MH2

## 2-175925-5
designator J?
Receptacle Header Assemby, Vertical CHAMP .050 Series II; ContactMaterial: Phosphor Bronze; ContactPlating: Gold (30); Positions: 36; PCB_Layout: Complies with manufacturer's recommendation.; DrillSize: Corresponds to nominal value.; ComponentAvailability: Obsolete; Published: 15-Jun-2001; LatestRevisionDate: 29-May-2009; LatestRevisionNote: Component Body Added.; DatasheetVersion: 20-Dec-1990; PackageVersion: 20-Dec-1990; PackageReference: 2-175925-5; Publisher: Altium Limited; Orientation: Vertical; HousingMaterial: Thermoplastic Polyester, UL 94V-0; ComponentLink1Description: Manufacturer Link; ComponentLink1URL: http://www.tycoelectronics.com/
footprint 2-175925-5 (Connector; CHAMP Miniature Ribbon 050 Series II; 36 Position; Vertical)
signal-integrity model CHAMP
pins: 1, 2, 3, 4, 5, 6, 7, 8, 9, 10, 11, 12, 13, 14, 15, 16, 17, 18, 19, 20, 21, 22, 23, 24, 25, 26, 27, 28, 29, 30, 31, 32, 33, 34, 35, 36, 37 MH1, 38 MH2

## 2-175925-7
designator J?
Receptacle Header Assemby, Vertical CHAMP .050 Series II; ContactMaterial: Phosphor Bronze; ContactPlating: Gold (30); Positions: 50; PCB_Layout: Complies with manufacturer's recommendation.; DrillSize: Corresponds to nominal value.; ComponentAvailability: Obsolete; Published: 15-Jun-2001; LatestRevisionDate: 29-May-2009; LatestRevisionNote: Component Body Added.; DatasheetVersion: 20-Dec-1990; PackageVersion: 20-Dec-1990; PackageReference: 2-175925-7; Publisher: Altium Limited; Orientation: Vertical; HousingMaterial: Thermoplastic Polyester, UL 94V-0; ComponentLink1Description: Manufacturer Link; ComponentLink1URL: http://www.tycoelectronics.com/
footprint 2-175925-7 (Connector; CHAMP Miniature Ribbon 050 Series II; 50 Position; Vertical)
signal-integrity model CHAMP
pins: 1, 2, 3, 4, 5, 6, 7, 8, 9, 10, 11, 12, 13, 14, 15, 16, 17, 18, 19, 20, 21, 22, 23, 24, 25, 26, 27, 28, 29, 30, 31, 32, 33, 34, 35, 36, 37, 38, 39, 40, 41, 42, 43, 44, 45, 46, 47, 48, 49, 50, 51 MH1, 52 MH2

## 2-175925-8
designator J?
Receptacle Header Assemby, Vertical CHAMP .050 Series II; ContactMaterial: Phosphor Bronze; ContactPlating: Gold (30); Positions: 68; PCB_Layout: Complies with manufacturer's recommendation.; DrillSize: Corresponds to nominal value.; ComponentAvailability: Obsolete; Published: 15-Jun-2001; LatestRevisionDate: 29-May-2009; LatestRevisionNote: Component Body Added.; DatasheetVersion: 20-Dec-1990; PackageVersion: 20-Dec-1990; PackageReference: 2-175925-8; Publisher: Altium Limited; Orientation: Vertical; HousingMaterial: Thermoplastic Polyester, UL 94V-0; ComponentLink1Description: Manufacturer Link; ComponentLink1URL: http://www.tycoelectronics.com/
footprint 2-175925-8 (Connector; CHAMP Miniature Ribbon 050 Series II; 68 Position; Vertical)
signal-integrity model CHAMP
pins: 1, 2, 3, 4, 5, 6, 7, 8, 9, 10, 11, 12, 13, 14, 15, 16, 17, 18, 19, 20, 21, 22, 23, 24, 25, 26, 27, 28, 29, 30, 31, 32, 33, 34, 35, 36, 37, 38, 39, 40, 41, 42, 43, 44, 45, 46, 47, 48, 49, 50, 51, 52, 53, 54, 55, 56, 57, 58, 59, 60, 61, 62, 63, 64, 65, 66, 67, 68, 69 MH1, 70 MH2

## 2-175925-9
designator J?
Receptacle Header Assemby, Vertical CHAMP .050 Series II; ContactMaterial: Phosphor Bronze; ContactPlating: Gold (30); Positions: 100; PCB_Layout: Complies with manufacturer's recommendation.; DrillSize: Corresponds to nominal value.; ComponentAvailability: Obsolete; Published: 15-Jun-2001; LatestRevisionDate: 29-May-2009; LatestRevisionNote: Component Body Added.; DatasheetVersion: 20-Dec-1990; PackageVersion: 20-Dec-1990; PackageReference: 2-175925-9; Publisher: Altium Limited; Orientation: Vertical; HousingMaterial: Thermoplastic Polyester, UL 94V-0; ComponentLink1Description: Manufacturer Link; ComponentLink1URL: http://www.tycoelectronics.com/
footprint 2-175925-9 (Connector; CHAMP Miniature Ribbon 050 Series II; 100 Position; Vertical)
signal-integrity model CHAMP
pins: 1, 2, 3, 4, 5, 6, 7, 8, 9, 10, 11, 12, 13, 14, 15, 16, 17, 18, 19, 20, 21, 22, 23, 24, 25, 26, 27, 28, 29, 30, 31, 32, 33, 34, 35, 36, 37, 38, 39, 40, 41, 42, 43, 44, 45, 46, 47, 48, 49, 50, 51, 52, 53, 54, 55, 56, 57, 58, 59, 60, 61, 62, 63, 64, 65, 66, 67, 68, 69, 70, 71, 72, 73, 74, 75, 76, 77, 78, 79, 80, 81, 82, 83, 84, 85, 86, 87, 88, 89, 90, 91, 92, 93, 94, 95, 96, 97, 98, 99, 100, 101 MH1, 102 MH2

## 2-176970-1
designator J?
Receptacle Header Assemby (3.1mm) CHAMP .050 Series II Std-Type; ContactMaterial: Copper Alloy; ContactPlating: Gold (30); Positions: 14; PCB_Layout: Complies with manufacturer's recommendation.; DrillSize: Corresponds to nominal value.; ComponentAvailability: Obsolete; Published: 15-Jun-2001; LatestRevisionDate: 29-May-2009; LatestRevisionNote: Component Body Added.; DatasheetVersion: 20-Sep-1994; PackageVersion: 20-Sep-1994; PackageReference: 2-176970-1; Publisher: Altium Limited; Orientation: Right Angle; HousingMaterial: Zinc Die Cast, UL 94V-0; ComponentLink1Description: Manufacturer Link; ComponentLink1URL: http://www.tycoelectronics.com/
footprint 2-176970-1 (Connector; CHAMP Miniature Ribbon 050 Series II; 14 Position; Right Angle)
signal-integrity model CHAMP
pins: 1, 2, 3, 4, 5, 6, 7, 8, 9, 10, 11, 12, 13, 14, 15 MH1, 16 MH2

## 2-176970-2
designator J?
Receptacle Header Assemby (3.1mm) CHAMP .050 Series II Std-Type; ContactMaterial: Copper Alloy; ContactPlating: Gold (30); Positions: 20; PCB_Layout: Complies with manufacturer's recommendation.; DrillSize: Corresponds to nominal value.; ComponentAvailability: Obsolete; Published: 15-Jun-2001; LatestRevisionDate: 29-May-2009; LatestRevisionNote: Component Body Added.; DatasheetVersion: 20-Sep-1994; PackageVersion: 20-Sep-1994; PackageReference: 2-176970-2; Publisher: Altium Limited; Orientation: Right Angle; HousingMaterial: Zinc Die Cast, UL 94V-0; ComponentLink1Description: Manufacturer Link; ComponentLink1URL: http://www.tycoelectronics.com/
footprint 2-176970-2 (Connector; CHAMP Miniature Ribbon 050 Series II; 20 Position; Right Angle)
signal-integrity model CHAMP
pins: 1, 2, 3, 4, 5, 6, 7, 8, 9, 10, 11, 12, 13, 14, 15, 16, 17, 18, 19, 20, 21 MH1, 22 MH2

## 2-176970-4
designator J?
Receptacle Header Assemby (3.1mm) CHAMP .050 Series II Std-Type; ContactMaterial: Copper Alloy; ContactPlating: Gold (30); Positions: 26; PCB_Layout: Complies with manufacturer's recommendation.; DrillSize: Corresponds to nominal value.; ComponentAvailability: Obsolete; Published: 15-Jun-2001; LatestRevisionDate: 29-May-2009; LatestRevisionNote: Component Body Added.; DatasheetVersion: 20-Sep-1994; PackageVersion: 20-Sep-1994; PackageReference: 2-176970-4; Publisher: Altium Limited; Orientation: Right Angle; HousingMaterial: Zinc Die Cast, UL 94V-0; ComponentLink1Description: Manufacturer Link; ComponentLink1URL: http://www.tycoelectronics.com/
footprint 2-176970-4 (Connector; CHAMP Miniature Ribbon 050 Series II; 26 Position; Right Angle)
signal-integrity model CHAMP
pins: 1, 2, 3, 4, 5, 6, 7, 8, 9, 10, 11, 12, 13, 14, 15, 16, 17, 18, 19, 20, 21, 22, 23, 24, 25, 26, 27 MH1, 28 MH2

## 2-176970-5
designator J?
Receptacle Header Assemby (3.1mm) CHAMP .050 Series II Std-Type; ContactMaterial: Copper Alloy; ContactPlating: Gold (30); Positions: 36; PCB_Layout: Complies with manufacturer's recommendation.; DrillSize: Corresponds to nominal value.; ComponentAvailability: Obsolete; Published: 15-Jun-2001; LatestRevisionDate: 29-May-2009; LatestRevisionNote: Component Body Added.; DatasheetVersion: 20-Sep-1994; PackageVersion: 20-Sep-1994; PackageReference: 2-176970-5; Publisher: Altium Limited; Orientation: Right Angle; HousingMaterial: Zinc Die Cast, UL 94V-0; ComponentLink1Description: Manufacturer Link; ComponentLink1URL: http://www.tycoelectronics.com/
footprint 2-176970-5 (Connector; CHAMP Miniature Ribbon 050 Series II; 36 Position; Right Angle)
signal-integrity model CHAMP
pins: 1, 2, 3, 4, 5, 6, 7, 8, 9, 10, 11, 12, 13, 14, 15, 16, 17, 18, 19, 20, 21, 22, 23, 24, 25, 26, 27, 28, 29, 30, 31, 32, 33, 34, 35, 36, 37 MH1, 38 MH2

## 2-176970-7
designator J?
Receptacle Header Assemby (3.1mm) CHAMP .050 Series II Std-Type; ContactMaterial: Copper Alloy; ContactPlating: Gold (30); Positions: 50; PCB_Layout: Complies with manufacturer's recommendation.; DrillSize: Corresponds to nominal value.; ComponentAvailability: Obsolete; Published: 15-Jun-2001; LatestRevisionDate: 29-May-2009; LatestRevisionNote: Component Body Added.; DatasheetVersion: 20-Sep-1994; PackageVersion: 20-Sep-1994; PackageReference: 2-176970-7; Publisher: Altium Limited; Orientation: Right Angle; HousingMaterial: Zinc Die Cast, UL 94V-0; ComponentLink1Description: Manufacturer Link; ComponentLink1URL: http://www.tycoelectronics.com/
footprint 2-176970-7 (Connector; CHAMP Miniature Ribbon 050 Series II; 50 Position; Right Angle)
signal-integrity model CHAMP
pins: 1, 2, 3, 4, 5, 6, 7, 8, 9, 10, 11, 12, 13, 14, 15, 16, 17, 18, 19, 20, 21, 22, 23, 24, 25, 26, 27, 28, 29, 30, 31, 32, 33, 34, 35, 36, 37, 38, 39, 40, 41, 42, 43, 44, 45, 46, 47, 48, 49, 50, 51 MH1, 52 MH2

## 2-176970-8
designator J?
Receptacle Header Assemby (3.1mm) CHAMP .050 Series II Std-Type; ContactMaterial: Copper Alloy; ContactPlating: Gold (30); Positions: 68; PCB_Layout: Complies with manufacturer's recommendation.; DrillSize: Corresponds to nominal value.; ComponentAvailability: Obsolete; Published: 15-Jun-2001; LatestRevisionDate: 29-May-2009; LatestRevisionNote: Component Body Added.; DatasheetVersion: 20-Sep-1994; PackageVersion: 20-Sep-1994; PackageReference: 2-176970-8; Publisher: Altium Limited; Orientation: Right Angle; HousingMaterial: Zinc Die Cast, UL 94V-0; ComponentLink1Description: Manufacturer Link; ComponentLink1URL: http://www.tycoelectronics.com/
footprint 2-176970-8 (Connector; CHAMP Miniature Ribbon 050 Series II; 68 Position; Right Angle)
signal-integrity model CHAMP
pins: 1, 2, 3, 4, 5, 6, 7, 8, 9, 10, 11, 12, 13, 14, 15, 16, 17, 18, 19, 20, 21, 22, 23, 24, 25, 26, 27, 28, 29, 30, 31, 32, 33, 34, 35, 36, 37, 38, 39, 40, 41, 42, 43, 44, 45, 46, 47, 48, 49, 50, 51, 52, 53, 54, 55, 56, 57, 58, 59, 60, 61, 62, 63, 64, 65, 66, 67, 68, 69 MH1, 70 MH2

## 2-176970-9
designator J?
Receptacle Header Assemby (3.1mm) CHAMP .050 Series II Std-Type; ContactMaterial: Copper Alloy; ContactPlating: Gold (30); Positions: 100; PCB_Layout: Complies with manufacturer's recommendation.; DrillSize: Corresponds to nominal value.; ComponentAvailability: Obsolete; Published: 15-Jun-2001; LatestRevisionDate: 29-May-2009; LatestRevisionNote: Component Body Added.; DatasheetVersion: 20-Sep-1994; PackageVersion: 20-Sep-1994; PackageReference: 2-176970-9; Publisher: Altium Limited; Orientation: Right Angle; HousingMaterial: Zinc Die Cast, UL 94V-0; ComponentLink1Description: Manufacturer Link; ComponentLink1URL: http://www.tycoelectronics.com/
footprint 2-176970-9 (Connector; CHAMP Miniature Ribbon 050 Series II; 100 Position; Right Angle)
signal-integrity model CHAMP
pins: 1, 2, 3, 4, 5, 6, 7, 8, 9, 10, 11, 12, 13, 14, 15, 16, 17, 18, 19, 20, 21, 22, 23, 24, 25, 26, 27, 28, 29, 30, 31, 32, 33, 34, 35, 36, 37, 38, 39, 40, 41, 42, 43, 44, 45, 46, 47, 48, 49, 50, 51, 52, 53, 54, 55, 56, 57, 58, 59, 60, 61, 62, 63, 64, 65, 66, 67, 68, 69, 70, 71, 72, 73, 74, 75, 76, 77, 78, 79, 80, 81, 82, 83, 84, 85, 86, 87, 88, 89, 90, 91, 92, 93, 94, 95, 96, 97, 98, 99, 100, 101 MH1, 102 MH2

## 2-176971-1
designator J?
Receptacle Header Assemby (3.9mm) CHAMP .050 Series II Std-Type; ContactMaterial: Phosphor Bronze; ContactPlating: Gold (30); Positions: 14; PCB_Layout: Complies with manufacturer's recommendation.; DrillSize: Corresponds to nominal value.; ComponentAvailability: Obsolete; Published: 15-Jun-2001; LatestRevisionDate: 29-May-2009; LatestRevisionNote: Component Body Added.; DatasheetVersion: 21-Sep-1994; PackageVersion: 21-Sep-1994; PackageReference: 2-176971-1; Publisher: Altium Limited; Orientation: Right Angle; HousingMaterial: Nylon, UL 94V-0; ComponentLink1Description: Manufacturer Link; ComponentLink1URL: http://www.tycoelectronics.com/
footprint 2-176971-1 (Connector; CHAMP Miniature Ribbon 050 Series II; 14 Position; Right Angle)
signal-integrity model CHAMP
pins: 1, 2, 3, 4, 5, 6, 7, 8, 9, 10, 11, 12, 13, 14, 15 MH1, 16 MH2

## 2-176971-2
designator J?
Receptacle Header Assemby (3.9mm) CHAMP .050 Series II Std-Type; ContactMaterial: Phosphor Bronze; ContactPlating: Gold (30); Positions: 20; PCB_Layout: Complies with manufacturer's recommendation.; DrillSize: Corresponds to nominal value.; ComponentAvailability: Obsolete; Published: 15-Jun-2001; LatestRevisionDate: 29-May-2009; LatestRevisionNote: Component Body Added.; DatasheetVersion: 21-Sep-1994; PackageVersion: 21-Sep-1994; PackageReference: 2-176971-2; Publisher: Altium Limited; Orientation: Right Angle; HousingMaterial: Nylon, UL 94V-0; ComponentLink1Description: Manufacturer Link; ComponentLink1URL: http://www.tycoelectronics.com/
footprint 2-176971-2 (Connector; CHAMP Miniature Ribbon 050 Series II; 20 Position; Right Angle)
signal-integrity model CHAMP
pins: 1, 2, 3, 4, 5, 6, 7, 8, 9, 10, 11, 12, 13, 14, 15, 16, 17, 18, 19, 20, 21 MH1, 22 MH2

## 2-176971-4
designator J?
Receptacle Header Assemby (3.9mm) CHAMP .050 Series II Std-Type; ContactMaterial: Phosphor Bronze; ContactPlating: Gold (30); Positions: 26; PCB_Layout: Complies with manufacturer's recommendation.; DrillSize: Corresponds to nominal value.; ComponentAvailability: Obsolete; Published: 15-Jun-2001; LatestRevisionDate: 29-May-2009; LatestRevisionNote: Component Body Added.; DatasheetVersion: 21-Sep-1994; PackageVersion: 21-Sep-1994; PackageReference: 2-176971-4; Publisher: Altium Limited; Orientation: Right Angle; HousingMaterial: Nylon, UL 94V-0; ComponentLink1Description: Manufacturer Link; ComponentLink1URL: http://www.tycoelectronics.com/
footprint 2-176971-4 (Connector; CHAMP Miniature Ribbon 050 Series II; 26 Position; Right Angle)
signal-integrity model CHAMP
pins: 1, 2, 3, 4, 5, 6, 7, 8, 9, 10, 11, 12, 13, 14, 15, 16, 17, 18, 19, 20, 21, 22, 23, 24, 25, 26, 27 MH1, 28 MH2

## 2-176971-5
designator J?
Receptacle Header Assemby (3.9mm) CHAMP .050 Series II Std-Type; ContactMaterial: Phosphor Bronze; ContactPlating: Gold (30); Positions: 36; PCB_Layout: Complies with manufacturer's recommendation.; DrillSize: Corresponds to nominal value.; ComponentAvailability: Obsolete; Published: 15-Jun-2001; LatestRevisionDate: 29-May-2009; LatestRevisionNote: Component Body Added.; DatasheetVersion: 21-Sep-1994; PackageVersion: 21-Sep-1994; PackageReference: 2-176971-5; Publisher: Altium Limited; Orientation: Right Angle; HousingMaterial: Nylon, UL 94V-0; ComponentLink1Description: Manufacturer Link; ComponentLink1URL: http://www.tycoelectronics.com/
footprint 2-176971-5 (Connector; CHAMP Miniature Ribbon 050 Series II; 36 Position; Right Angle)
signal-integrity model CHAMP
pins: 1, 2, 3, 4, 5, 6, 7, 8, 9, 10, 11, 12, 13, 14, 15, 16, 17, 18, 19, 20, 21, 22, 23, 24, 25, 26, 27, 28, 29, 30, 31, 32, 33, 34, 35, 36, 37 MH1, 38 MH2

## 2-176971-7
designator J?
Receptacle Header Assemby (3.9mm) CHAMP .050 Series II Std-Type; ContactMaterial: Phosphor Bronze; ContactPlating: Gold (30); Positions: 50; PCB_Layout: Complies with manufacturer's recommendation.; DrillSize: Corresponds to nominal value.; ComponentAvailability: Obsolete; Published: 15-Jun-2001; LatestRevisionDate: 29-May-2009; LatestRevisionNote: Component Body Added.; DatasheetVersion: 21-Sep-1994; PackageVersion: 21-Sep-1994; PackageReference: 2-176971-7; Publisher: Altium Limited; Orientation: Right Angle; HousingMaterial: Nylon, UL 94V-0; ComponentLink1Description: Manufacturer Link; ComponentLink1URL: http://www.tycoelectronics.com/
footprint 2-176971-7 (Connector; CHAMP Miniature Ribbon 050 Series II; 50 Position; Right Angle)
signal-integrity model CHAMP
pins: 1, 2, 3, 4, 5, 6, 7, 8, 9, 10, 11, 12, 13, 14, 15, 16, 17, 18, 19, 20, 21, 22, 23, 24, 25, 26, 27, 28, 29, 30, 31, 32, 33, 34, 35, 36, 37, 38, 39, 40, 41, 42, 43, 44, 45, 46, 47, 48, 49, 50, 51 MH1, 52 MH2